# Altium schematic symbol library Schlib.SchLib: 629 symbols (part 8 of 21)
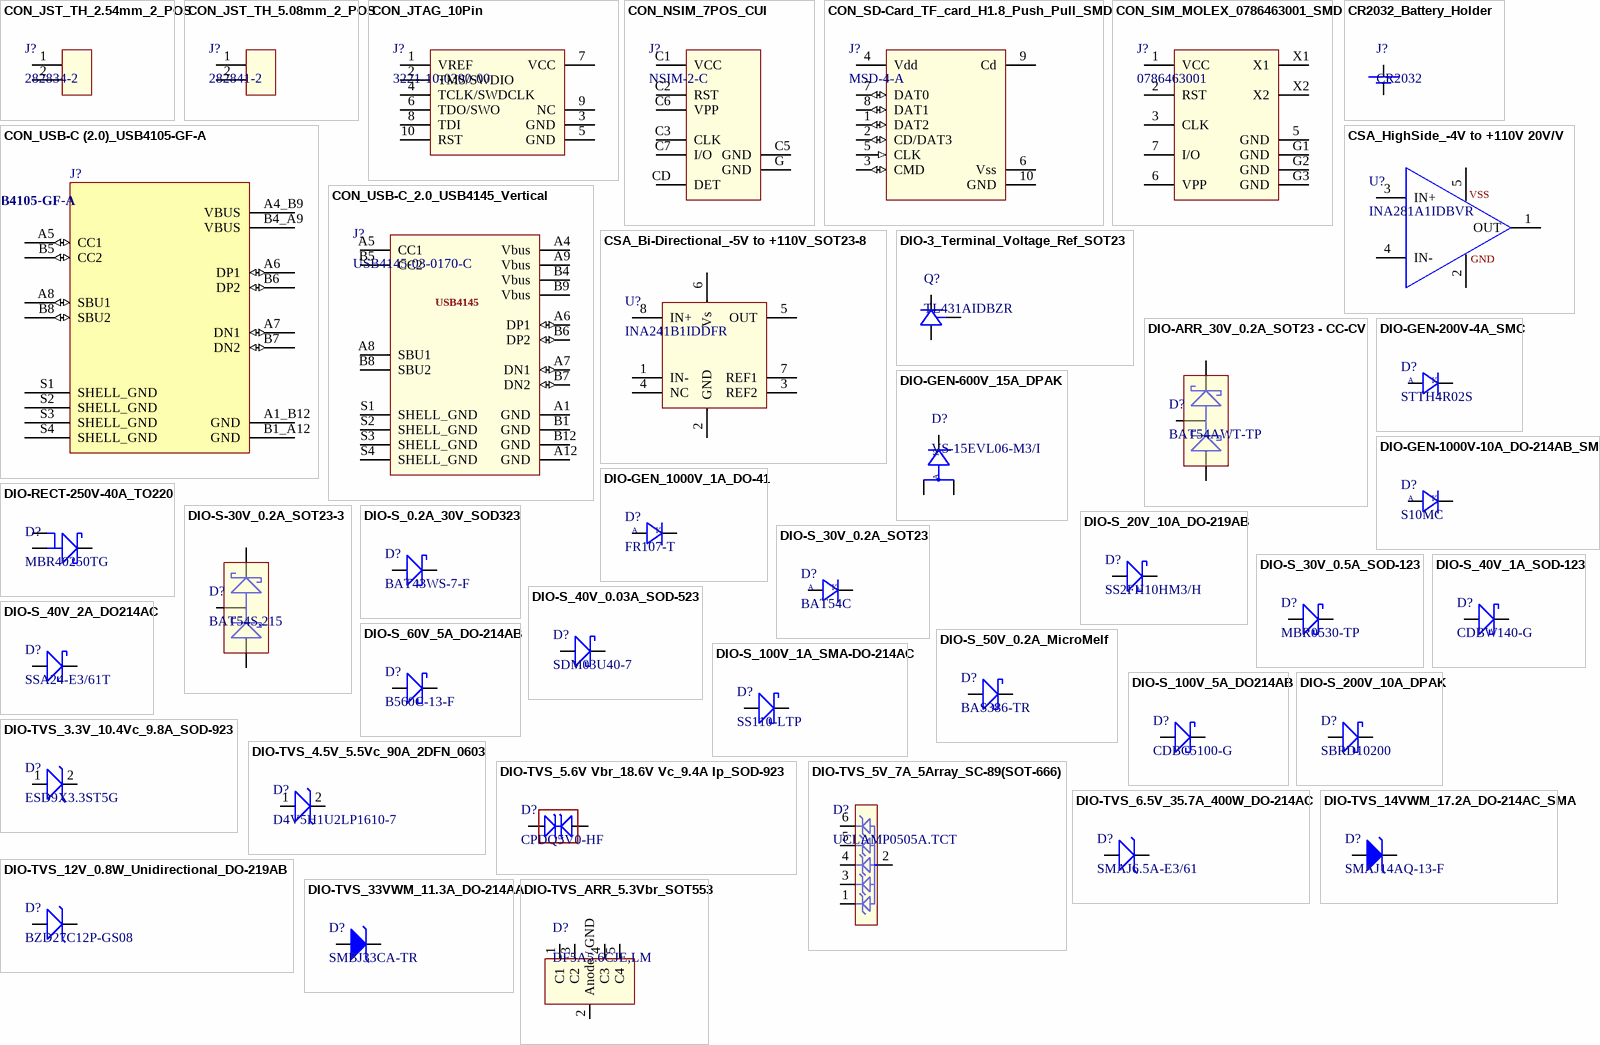
[diagram p25: symbols CON_JST_TH_2.54mm_2_POS to DIO-TVS_ARR_5.3Vbr_SOT553]

## DIO-S_100V_5A_DO214AB
designator D?, comment CDBC5100-G
Rectifier Diode, Schottky, 1 Phase, 1 Element, 5A, 100V V(RRM), Silicon, DO-214AB; Manufacturer: Comchip; Package Body Material: Plastic; Application(s): GENERAL PURPOSE; Non-rep Pk Forward Current-Max: 100A; Number of Elements: 1; Time @ Peak Reflow Temperature-Max (s): 30s; Supplier: Digikey; Supplier Part Number: 641-1124-1-ND; Manufacturer Part Number: CDBC5100-G; RoHS: Yes; Category: Rectifier Diodes; Stock: 8161; Pricing: 1=0.7, 10=0.608, 100=0.421, 500=0.3518, 1000=0.2994 (USD); Pins: 2; Diode Element Material: SILICON; Package Shape: Rectangular; Min Operating Temperature: -40°C; Max Operating Temperature: 125°C; Diode Type: RECTIFIER; JESD-30 Code: R-PDSO-C2; Number of Phases: 1; Max Output current: 5A; Package Style: SMALL OUTLINEMeter; Peak Reflow Temperature (Cel): 260°C; Rep Pk Reverse Voltage-Max: 100V; Surface Mount: Yes; Technology: SCHOTTKY; Terminal Form: C BEND; Terminal Position: DUAL; JEDEC-95 Code: DO-214AB; Reach SVHC Compliant: Yes; RoHS Compliant: Yes; ComponentLink1URL: https://datasheet.ciiva.com:443/pdfs/VipMasterIC/IC/COMC/COMCS00690/COMCS00690-1.pdf?src-supplier=IHS+Markit; ComponentLink1Description: https://datasheet.ciiva.com:443/pdfs/VipMasterIC/IC/COMC/COMCS00690/COMCS00690-1.pdf?src-supplier=IHS+Markit; ComponentLink2URL: https://datasheet.ciiva.com/914/cdbc520-g20thru936981-20cdbc5100-g20revc-914833.pdf?src-supplier=Digikey; ComponentLink2Description: https://datasheet.ciiva.com/914/cdbc520-g20thru936981-20cdbc5100-g20revc-914833.pdf?src-supplier=Digikey; ComponentLink3URL: https://datasheet.ciiva.com/914/cdbc520-gthru936981-cdbc5100-grevc-914835.pdf?src-supplier=Digikey; ComponentLink3Description: https://datasheet.ciiva.com/914/cdbc520-gthru936981-cdbc5100-grevc-914835.pdf?src-supplier=Digikey; ComponentLink4URL: https://datasheet.ciiva.com/914/cdbc520-gthru936981-cdbc5100-grevc-914834.pdf?src-supplier=Digikey; ComponentLink4Description: https://datasheet.ciiva.com/914/cdbc520-gthru936981-cdbc5100-grevc-914834.pdf?src-supplier=Digikey
footprint DO-214AB SMC
pins: 1, 2

## DIO-S_200V_10A_DPAK
designator D?, comment SBRD10200
Diode Schottky 200V 10A Dpak; Manufacturer: Sangdest Microelectronics; Supplier: Digikey; Supplier Part Number: 1655-SBRD10200CT-ND; Manufacturer Part Number: SBRD10200; RoHS: No; Category: Uncategorized; Stock: 46636; Pricing: 1=0.54, 10=0.461, 100=0.3204, 500=0.25014, 1000=0.20331 (USD)
footprint DPAK - TO-252
pins: 1,3 1, 4

## DIO-TVS_3.3V_10.4Vc_9.8A_SOD-923
designator D?, comment ESD9X3.3ST5G
Trans Voltage Suppressor Diode, 102W, 3.3V V(RWM), Unidirectional, 1 Element, Silicon; Manufacturer: ON Semiconductor; Package Body Material: Plastic; Min Breakdown Voltage: 5V; Number of Elements: 1; Clamping Voltage-Max: 10.4V; Max Power Dissipation: 150mW; Time @ Peak Reflow Temperature-Max (s): 40s; Qualification Status: Not Qualified; Supplier: Digi-Key; Supplier Part Number: ESD9X3.3ST5GOSCT-ND; Manufacturer Part Number: ESD9X3.3ST5G; RoHS: Yes; Category: ESD and Circuit Protection ICs; Stock: 3511; Pricing: 1=0.28, 10=0.193, 100=0.0942, 500=0.07858, 1000=0.0546, 2000=0.04732 (USD); Pins: 2; Diode Element Material: SILICON; Package Shape: Rectangular; Terminal Finish: Tin; Min Operating Temperature: -55°C; Max Operating Temperature: 150°C; Polarity: Unidirectional; Diode Type: TRANS VOLTAGE SUPPRESSOR; Package Style: SMALL OUTLINEMeter; Surface Mount: Yes; Technology: AVALANCHE; Terminal Form: Flat; Terminal Position: DUAL; JESD-609 Code: e3; JESD-30 Code: R-PDSO-F2; Moisture Sensitivity Level: 1; Rep Pk Reverse Voltage-Max: 3.3V; Peak Reflow Temperature (Cel): 260°C; Non-rep Peak Rev Power Dis-Max: 102W; Reach SVHC Compliant: Yes; RoHS Compliant: Yes; ComponentLink1URL: https://datasheet.ciiva.com:443/pdfs/VipMasterIC/IC/ONSM/ONSM-S-A0003579749/ONSM-S-A0003579749-1.pdf?src-supplier=IHS+Markit; ComponentLink1Description: https://datasheet.ciiva.com:443/pdfs/VipMasterIC/IC/ONSM/ONSM-S-A0003579749/ONSM-S-A0003579749-1.pdf?src-supplier=IHS+Markit
pins: 1, 2

## DIO-TVS_4.5V_5.5Vc_90A_2DFN_0603
designator D?, comment D4V5H1U2LP1610-7
11.5V Clamp 90A (8/20µs) Ipp Tvs Diode Surface Mount U-DFN1610-2 (Type B); Manufacturer: Diodes; Diode Type: TRANS VOLTAGE SUPPRESSOR; Supplier: Digi-Key; Supplier Part Number: D4V5H1U2LP1610-7DIDKR-ND; Manufacturer Part Number: D4V5H1U2LP1610-7; RoHS: Yes; Category: TVS Diodes; Stock: 77071; Pricing: 1=0.38, 10=0.272, 100=0.1374, 500=0.12174, 1000=0.09474, 2000=0.08479, 5000=0.0829 (USD); Reach SVHC Compliant: Yes; RoHS Compliant: Yes; ComponentLink1URL: https://datasheet.ciiva.com:443/pdfs/VipMasterIC/IC/DIOD/DIOD-S-A0004145107/DIOD-S-A0004145026-1.pdf?src-supplier=IHS+Markit; ComponentLink1Description: https://datasheet.ciiva.com:443/pdfs/VipMasterIC/IC/DIOD/DIOD-S-A0004145107/DIOD-S-A0004145026-1.pdf?src-supplier=IHS+Markit; Supplier 1: Digi-Key; Supplier Part Number 1: D4V5H1U2LP1610-7DICT-ND
pins: 1, 2

## DIO-TVS_5.6V Vbr_18.6V Vc_9.4A Ip_SOD-923
designator D?, comment CPDQ5V0-HF
ESD Suppressor Diode TVS Bi-Dir 5V 18.6Vc 2-Pin SOD-923F T/R; Manufacturer: Comchip; Min Breakdown Voltage: 5.6V; Clamping Voltage: 7.3V; Peak Pulse Power: 174W; Power Line Protection: No; Peak Pulse Current: 9.4A; Diode Type: ZENER; Capacitance: 15pF; Number of Bidirectional Channels: 1; Supplier 1: Digi-Key; Manufacturer Part Number: CPDQ5V0-HF; RoHS: Yes; Category: TVS Diodes; Stock 1: 81421; Pricing 1: 1=0.31, 10=0.252, 100=0.1337, 500=0.08794, 1000=0.0598, 2000=0.05394 (USD); Mount: Surface Mount; Case/Package: 0402; Min Operating Temperature: -40°C; Max Operating Temperature: 125°C; Packaging: Tape and Reel; Package Quantity: 8000; Reverse Standoff Voltage: 5V; Breakdown Voltage: 5.6V; Series: -; Operating Supply Voltage: 5V; RoHS Compliant: Yes; ComponentLink1URL: https://datasheet.ciiva.com/6577/cpdq5v0-hf20reva825126-6577872.pdf?src-supplier=Digi-Key; ComponentLink1Description: https://datasheet.ciiva.com/6577/cpdq5v0-hf20reva825126-6577872.pdf?src-supplier=Digi-Key; ComponentLink2URL: https://datasheet.ciiva.com/12545/cpdq5v0-hf20reva825126-218795-12545530.pdf?src-supplier=Mouser; ComponentLink2Description: https://datasheet.ciiva.com/12545/cpdq5v0-hf20reva825126-218795-12545530.pdf?src-supplier=Mouser; Supplier 2: Digi-Key; Manufacturer 2: Comchip; Manufacturer Part Number 2: CPDQ5V0-HF; Stock 2: 80696; Pricing 2: 1=0.31, 10=0.214, 100=0.1042, 500=0.08692, 1000=0.0604, 2000=0.05235 (USD); Supplier Part Number 2: 641-1478-1-ND
footprint SOD-923F (SODFL, 2-Leads, Body 0.60x1.00mm, IPC Medium Density)
pins: 1, 2 "1"

## DIO-TVS_5V_7A_5Array_SC-89(SOT-666)
designator D?, comment UCLAMP0505A.TCT
Trans Voltage Suppressor Diode, 100W, 5V V(RWM), Unidirectional, 5 Element, Silicon; Manufacturer: Semtech; Package Body Material: Plastic; Min Breakdown Voltage: 6V; Clamping Voltage-Max: 12V; Number of Elements: 5; Qualification Status: Not Qualified; Supplier: Digi-Key; Supplier Part Number: UCLAMP0505ACT-ND; Manufacturer Part Number: UCLAMP0505A.TCT; RoHS: Yes; Category: TVS Diodes; Stock: 14139; Pricing: 1=0.76, 10=0.656, 100=0.4545, 500=0.37976, 1000=0.3232 (USD); Pins: 6; Diode Element Material: SILICON; Package Shape: Rectangular; Terminal Finish: Tin; Min Operating Temperature: -55°C; Max Operating Temperature: 125°C; JESD-609 Code: e3; Polarity: Unidirectional; Diode Type: TRANS VOLTAGE SUPPRESSOR; JESD-30 Code: R-PDSO-F6; Moisture Sensitivity Level: 1; Non-rep Peak Rev Power Dis-Max: 100W; Package Style: SMALL OUTLINEMeter; Peak Reflow Temperature (Cel): 260°C; Rep Pk Reverse Voltage-Max: 5V; Surface Mount: Yes; Technology: AVALANCHE; Terminal Form: Flat; Terminal Position: DUAL; Reach SVHC Compliant: Yes; RoHS Compliant: Yes; ComponentLink1URL: https://datasheet.ciiva.com:443/pdfs/VipMasterIC/IC/SEMT/SEMT-S-A0000084877/SEMT-S-A0000084877-1.pdf?src-supplier=IHS+Markit; ComponentLink1Description: https://datasheet.ciiva.com:443/pdfs/VipMasterIC/IC/SEMT/SEMT-S-A0000084877/SEMT-S-A0000084877-1.pdf?src-supplier=IHS+Markit; ComponentLink2URL: https://datasheet.ciiva.com/26837/getdatasheetpartid-215864-26837202.pdf?src-supplier=Verical; ComponentLink2Description: https://datasheet.ciiva.com/26837/getdatasheetpartid-215864-26837202.pdf?src-supplier=Verical; ComponentLink3URL: https://datasheet.ciiva.com/11195/uclamp0505a-11195109.pdf?src-supplier=Avnet; ComponentLink3Description: https://datasheet.ciiva.com/11195/uclamp0505a-11195109.pdf?src-supplier=Avnet
pins: 1, 2, 3, 4, 5, 6

## DIO-TVS_6.5V_35.7A_400W_DO-214AC
designator D?, comment SMAJ6.5A-E3/61
Trans Voltage Suppressor Diode, 400W, 6.5V V(RWM), Unidirectional, 1 Element, Silicon, DO-214AC; Manufacturer: Vishay Semiconductors; Package Body Material: Plastic; Number of Elements: 1; Time @ Peak Reflow Temperature-Max (s): 30s; Additional Feature: EXCELLENT CLAMPING CAPABILITY; Max Breakdown Voltage: 7.98V; Min Breakdown Voltage: 7.22V; Breakdown Voltage-Nom: 7.6V; Clamping Voltage-Max: 11.2V; Qualification Status: Not Qualified; Supplier: Mouser; Supplier Part Number: 625-SMAJ6.5A-E3; Manufacturer Part Number: SMAJ6.5A-E3/61; RoHS: Yes; Category: TVS Diodes; Stock: 351; Pricing: 1=0.23, 10=0.159, 50=0.159, 100=0.092, 1000=0.072, 10000=0.065 (USD); Pins: 2; Terminal Finish: Tin; Package Shape: Rectangular; Diode Element Material: SILICON; Min Operating Temperature: -55°C; Max Operating Temperature: 150°C; JESD-609 Code: e3; Moisture Sensitivity Level: 1; Package Style: SMALL OUTLINEMeter; Surface Mount: Yes; Terminal Form: C BEND; Terminal Position: DUAL; JESD-30 Code: R-PDSO-C2; Peak Reflow Temperature (Cel): 260°C; Technology: AVALANCHE; Diode Type: TRANS VOLTAGE SUPPRESSOR; Rep Pk Reverse Voltage-Max: 6.5V; Polarity: Unidirectional; Non-rep Peak Rev Power Dis-Max: 400W; RoHS Compliant: Yes; Reach SVHC Compliant: No; JEDEC-95 Code: DO-214AC; ComponentLink1URL: https://datasheet.ciiva.com:443/pdfs/VipMasterIC/IC/VISH/VISH-S-A0007326236/VISH-S-A0007326236-1.pdf?src-supplier=IHS+Markit; ComponentLink1Description: https://datasheet.ciiva.com:443/pdfs/VipMasterIC/IC/VISH/VISH-S-A0007326236/VISH-S-A0007326236-1.pdf?src-supplier=IHS+Markit; ComponentLink2URL: https://datasheet.ciiva.com/15143/getdatasheetpartid-67023-15143218.pdf?src-supplier=Verical; ComponentLink2Description: https://datasheet.ciiva.com/15143/getdatasheetpartid-67023-15143218.pdf?src-supplier=Verical; ComponentLink3URL: https://datasheet.ciiva.com/4510/smaj50a-241759-4510972.pdf?src-supplier=Mouser; ComponentLink3Description: https://datasheet.ciiva.com/4510/smaj50a-241759-4510972.pdf?src-supplier=Mouser; ComponentLink4URL: https://datasheet.ciiva.com/3022/88390-3022307.pdf?src-supplier=Avnet; ComponentLink4Description: https://datasheet.ciiva.com/3022/88390-3022307.pdf?src-supplier=Avnet; ComponentLink5URL: https://datasheet.ciiva.com/16225/smaj50a-16225883.pdf?src-supplier=Future+Electronics; ComponentLink5Description: https://datasheet.ciiva.com/16225/smaj50a-16225883.pdf?src-supplier=Future+Electronics
footprint DIO214AC
pins: 1, 2

## DIO-TVS_12V_0.8W_Unidirectional_DO-219AB
designator D?, comment BZD27C12P-GS08
Zener Diode, 12V V(Z), 5.39%, 0.8W, Silicon, Unidirectional, DO-219AB; Manufacturer: Vishay; Package Body Material: Plastic; Max Power Dissipation: 800mW; Number of Elements: 1; Time @ Peak Reflow Temperature-Max (s): 40s; Test Current: 50mA; Qualification Status: Not Qualified; Supplier: Bison Technologies; Supplier Part Number: BZD27C12P-GS08-296836; Manufacturer Part Number: BZD27C12P-GS08; RoHS: Yes; Category: Zener Diodes; Stock: 53; Pricing: 100=3.92, 1000=3.92, 10000=3.92 (USD); Pins: 2; Diode Element Material: SILICON; Package Shape: Rectangular; Terminal Finish: Tin; Max Operating Temperature: 150°C; JESD-609 Code: e3; Polarity: Unidirectional; Diode Type: ZENER; JESD-30 Code: R-PDSO-F2; Moisture Sensitivity Level: 1; Package Style: SMALL OUTLINEMeter; Peak Reflow Temperature (Cel): 260°C; Reference Voltage-Nom: 12V; Surface Mount: Yes; Technology: ZENER; Terminal Form: Flat; Terminal Position: DUAL; Voltage Tol-Max: 5.39%; RoHS Compliant: Yes; JEDEC-95 Code: DO-219AB; Reach SVHC Compliant: No; ComponentLink1URL: https://datasheet.ciiva.com:443/pdfs/VipMasterIC/IC/VISH/VISHS83149/VISHS83149-1.pdf?src-supplier=IHS+Markit; ComponentLink1Description: https://datasheet.ciiva.com:443/pdfs/VipMasterIC/IC/VISH/VISHS83149/VISHS83149-1.pdf?src-supplier=IHS+Markit; ComponentLink2URL: http://www.mouser.com/ds/2/427/85810-201154.pdf?src-supplier=Mouser; ComponentLink2Description: http://www.mouser.com/ds/2/427/85810-201154.pdf?src-supplier=Mouser; ComponentLink3URL: http://components.arrow.com/part/dataview/43139632S8430188N5680?src-supplier=Arrow+Electronics; ComponentLink3Description: http://components.arrow.com/part/dataview/43139632S8430188N5680?src-supplier=Arrow+Electronics; ComponentLink4URL: http://docs-usa.electrocomponents.com/techlib:/itc_doclist_US.htm?stockno=6997723&src-supplier=Allied+Electronics; ComponentLink4Description: http://docs-usa.electrocomponents.com/techlib:/itc_doclist_US.htm?stockno=6997723&src-supplier=Allied+Electronics; ComponentLink5URL: http://www.vishay.com/docs/85153/bzd27c3v6p.pdf?src-supplier=Future+Electronics; ComponentLink5Description: http://www.vishay.com/docs/85153/bzd27c3v6p.pdf?src-supplier=Future+Electronics; ComponentLink6URL: http://www.vishay.com/docs/85810/bzd27c3v.pdf?src-supplier=Avnet; ComponentLink6Description: http://www.vishay.com/docs/85810/bzd27c3v.pdf?src-supplier=Avnet
footprint DO-219AB
pins: 1, 2

## DIO-TVS_14VWM_17.2A_DO-214AC_SMA
designator D?, comment SMAJ14AQ-13-F
Trans Voltage Suppressor Diode, 400W, 14V V(RWM), Unidirectional, 1 Element, Silicon; Manufacturer: Diodes; Supplier: Arrow Electronics; Supplier Part Number: SMAJ14AQ-13-F; Manufacturer Part Number: SMAJ14AQ-13-F; RoHS: Yes; Category: TVS Diodes; Stock: 5000; Pricing: 756=0.1322, 1000=0.0851, 2000=0.0816, 5000=0.0663 (USD); Diode Type: TRANS VOLTAGE SUPPRESSOR; RoHS Compliant: Yes; Reach SVHC Compliant: No; ComponentLink1URL: https://datasheet.ciiva.com:443/pdfs/VipMasterIC/IC/DIOD/DIOD-S-A0009824709/DIOD-S-A0009865529-1.pdf?src-supplier=IHS+Markit; ComponentLink1Description: https://datasheet.ciiva.com:443/pdfs/VipMasterIC/IC/DIOD/DIOD-S-A0009824709/DIOD-S-A0009865529-1.pdf?src-supplier=IHS+Markit
footprint DIO214AC
pins: 1, 2

## DIO-TVS_33VWM_11.3A_DO-214AA
designator D?, comment SMBJ33CA-TR
Trans Voltage Suppressor Diode, 4000W, 33V V(RWM), Bidirectional, 1 Element, Silicon, DO-214AA; Manufacturer: STMicroelectronics; Package Body Material: Plastic; Non-rep Peak Rev Power Dis-Max: 4kW; Number of Elements: 1; Min Breakdown Voltage: 36.7V; Time @ Peak Reflow Temperature-Max (s): 30s; Clamping Voltage-Max: 69.7V; Max Power Dissipation: 5W; Qualification Status: Not Qualified; Supplier: Arrow Electronics; Supplier Part Number: SMBJ33CA-TR; Manufacturer Part Number: SMBJ33CA-TR; RoHS: Yes; Category: TVS Diodes; Stock: 322500; Pricing: 2500=0.0601, 50000=0.0573 (USD); Pins: 2; Diode Element Material: SILICON; Package Shape: Rectangular; Terminal Finish: Tin; Min Operating Temperature: -55°C; Max Operating Temperature: 150°C; Diode Type: TRANS VOLTAGE SUPPRESSOR; JESD-609 Code: e3; Polarity: Bidirectional; JESD-30 Code: R-PDSO-C2; Moisture Sensitivity Level: 1; Package Style: SMALL OUTLINEMeter; Rep Pk Reverse Voltage-Max: 33V; Surface Mount: Yes; Technology: AVALANCHE; Terminal Form: C BEND; Terminal Position: DUAL; Peak Reflow Temperature (Cel): 260°C; Reach SVHC Compliant: No; RoHS Compliant: Yes; JEDEC-95 Code: DO-214AA; ComponentLink1URL: https://datasheet.ciiva.com:443/pdfs/VipMasterIC/IC/SGST/SGSTS31201/SGSTS31201-1.pdf?src-supplier=IHS+Markit; ComponentLink1Description: https://datasheet.ciiva.com:443/pdfs/VipMasterIC/IC/SGST/SGSTS31201/SGSTS31201-1.pdf?src-supplier=IHS+Markit
footprint DO-214AA
pins: 1, 2

## DIO-TVS_ARR_5.3Vbr_SOT553
designator D?, comment DF5A5.6CJE,LM
TVS DIODE 3.5V ESV; Manufacturer: Toshiba; Supplier: Digikey; Supplier Part Number: DF5A5.6CJE,LMCT-ND; Manufacturer Part Number: DF5A5.6CJE,LM; RoHS: Yes; Category: TVS Diodes; Stock: 94799; Pricing: 1=0.33, 10=0.228, 100=0.1111, 500=0.09266, 1000=0.06439, 2000=0.0558 (USD); ComponentLink1URL: https://toshiba.semicon-storage.com/info/docget.jsp?did=351&prodName=DF5A5.6CJE&src-supplier=Digikey; ComponentLink1Description: https://toshiba.semicon-storage.com/info/docget.jsp?did=351&prodName=DF5A5.6CJE&src-supplier=Digikey; ComponentLink2URL: http://toshiba.semicon-storage.com/info/docget.jsp?did=351&prodName=DF5A5.6CJE&src-supplier=Avnet; ComponentLink2Description: http://toshiba.semicon-storage.com/info/docget.jsp?did=351&prodName=DF5A5.6CJE&src-supplier=Avnet; ComponentLink3URL: http://toshiba.semicon-storage.com/info/lookup.jsp?pid=DF5A5.6CJE&amp;lang=en&src-supplier=Mouser; ComponentLink3Description: http://toshiba.semicon-storage.com/info/lookup.jsp?pid=DF5A5.6CJE&amp;lang=en&src-supplier=Mouser
footprint SOT553
pins: 1 C1, 2 Anode / GND, 3 C2, 4 C3, 5 C4

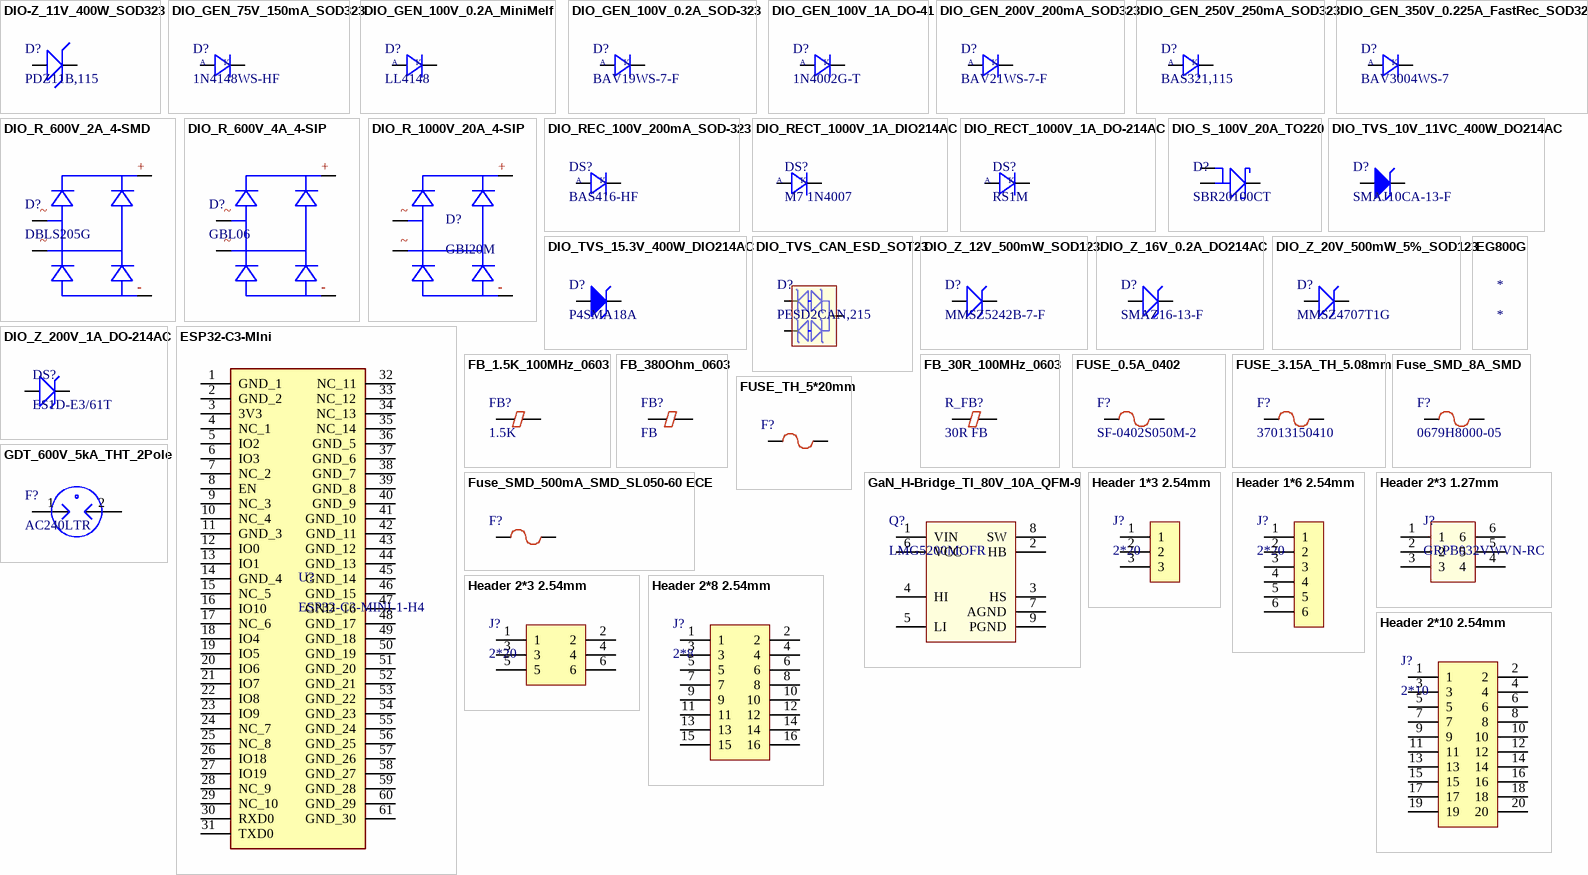
[diagram p5: symbols DIO-Z_11V_400W_SOD323 to Header 2*10 2.54mm]

## DIO-Z_11V_400W_SOD323
designator D?, comment PDZ11B,115
Zener Diode, 11V V(Z), 2%, 0.4W, Silicon, Unidirectional; Manufacturer: Nexperia; Package Body Material: Plastic; Number of Elements: 1; Max Power Dissipation: 400mW; Max Reverse Current: 100nA; Time @ Peak Reflow Temperature-Max (s): 40s; Voltage Temp Coeff-Max: 7.4mV/Cel; Test Current: 5mA; Qualification Status: Not Qualified; Supplier: Digikey; Supplier Part Number: 1727-2151-1-ND; Manufacturer Part Number: PDZ11B,115; RoHS: Yes; Category: Zener Diodes; Stock: 28827; Pricing: 1=0.11, 10=0.078, 100=0.04, 500=0.0375, 1000=0.035 (USD); Pins: 2; Diode Element Material: SILICON; Package Shape: Rectangular; Terminal Finish: Tin; Max Operating Temperature: 150°C; JESD-609 Code: e3; Polarity: Unidirectional; Diode Type: ZENER; JESD-30 Code: R-PDSO-G2; Moisture Sensitivity Level: 1; Package Style: SMALL OUTLINEMeter; Peak Reflow Temperature (Cel): 260°C; Reference Voltage-Nom: 11V; Surface Mount: Yes; Technology: ZENER; Terminal Form: Gull Wing; Terminal Position: DUAL; Voltage Tol-Max: 2%; Reach SVHC Compliant: Yes; RoHS Compliant: Yes; ComponentLink1URL: https://datasheet.ciiva.com:443/pdfs/VipMasterIC/IC/PHGL/PHGLS19616/PHGLS19616-1.pdf?src-supplier=IHS+Markit; ComponentLink1Description: https://datasheet.ciiva.com:443/pdfs/VipMasterIC/IC/PHGL/PHGLS19616/PHGLS19616-1.pdf?src-supplier=IHS+Markit; ComponentLink2URL: https://datasheet.octopart.com/PDZ11B%2C115-Nexperia-datasheet-165580943.pdf?src-supplier=TME; ComponentLink2Description: https://datasheet.octopart.com/PDZ11B%2C115-Nexperia-datasheet-165580943.pdf?src-supplier=TME
footprint SOD-323
pins: 1, 2

## DIO_GEN_75V_150mA_SOD323
designator D?, comment 1N4148WS-HF
Rectifier Diode, 1 Phase, 1 Element, 0.15A, 100V V(RRM), Silicon; Manufacturer: Comchip; Supplier: Digikey; Supplier Part Number: 641-1N4148WS-HFCT-ND; Manufacturer Part Number: 1N4148WS-HF; RoHS: No; Stock: 386022; Pricing: 1=0.17, 10=0.118, 100=0.0639, 500=0.05018, 1000=0.03484 (USD); RoHS Compliant: Yes
footprint SOD-323
pins: 1, 2
text: A; K

## DIO_GEN_100V_0.2A_MiniMelf
designator D?, comment LL4148
Rectifier Diode, 1 Phase, 1 Element, 0.2A, 100V V(RRM), Silicon, DO-213AC; Manufacturer: ON Semiconductor / Fairchild; Package Body Material: Glass; Case Connection: Isolated; Number of Elements: 1; Max Output current: 200mA; Max Power Dissipation: 500mW; Reverse Recovery Time-Max: 0.004us; Forward Voltage: 1V; Non-rep Pk Forward Current-Max: 2A; Qualification Status: Not Qualified; Supplier: Farnell; Supplier Part Number: 2822552; Manufacturer Part Number: LL4148; RoHS: Yes; Category: Rectifier Diodes; Stock: 54440; Pricing: 5=0.0993, 50=0.0496, 100=0.0258, 500=0.0244, 1000=0.0229 (EUR); Pins: 2; Diode Element Material: SILICON; Package Shape: Round; Terminal Finish: Tin; Max Operating Temperature: 175°C; Diode Type: RECTIFIER; JESD-30 Code: O-LELF-R2; Package Style: LONG FORMMeter; Rep Pk Reverse Voltage-Max: 100V; Surface Mount: Yes; Terminal Form: WRAP AROUND; Terminal Position: END; Moisture Sensitivity Level: 1; JESD-609 Code: e3; RoHS Compliant: Yes; Reach SVHC Compliant: Yes; JEDEC-95 Code: DO-213AC; ComponentLink1URL: https://datasheet.ciiva.com:443/pdfs/VipMasterIC/IC/ONSM/ONSM-S-A0003589362/ONSM-S-A0003589362-1.pdf?src-supplier=IHS+Markit; ComponentLink1Description: https://datasheet.ciiva.com:443/pdfs/VipMasterIC/IC/ONSM/ONSM-S-A0003589362/ONSM-S-A0003589362-1.pdf?src-supplier=IHS+Markit
pins: 1, 2
text: A; K

## DIO_GEN_100V_0.2A_SOD-323
designator D?, comment BAV19WS-7-F
Rectifier Diode, 1 Phase, 1 Element, 0.2A, 120V V(RRM), Silicon; Manufacturer: Diodes; Package Body Material: Plastic; Additional Feature: HIGH RELIABILITY; Forward Voltage: 1V; Non-rep Pk Forward Current-Max: 2.5A; Number of Elements: 1; Max Output current: 200mA; Max Power Dissipation: 200mW; Reverse Recovery Time-Max: 0.05us; Time @ Peak Reflow Temperature-Max (s): 40s; Qualification Status: Not Qualified; Supplier: Farnell; Supplier Part Number: 3127222; Manufacturer Part Number: BAV19WS-7-F; RoHS: Yes; Category: Rectifier Diodes; Stock: 3104; Pricing: 5=0.146, 10=0.0945, 100=0.037, 500=0.0351, 1000=0.0332, 5000=0.0253 (EUR); Pins: 2; Diode Element Material: SILICON; Package Shape: Rectangular; Terminal Finish: Tin; Min Operating Temperature: -65°C; Max Operating Temperature: 150°C; JESD-609 Code: e3; Diode Type: RECTIFIER; JESD-30 Code: R-PDSO-G2; Moisture Sensitivity Level: 1; Package Style: SMALL OUTLINEMeter; Peak Reflow Temperature (Cel): 260°C; Rep Pk Reverse Voltage-Max: 120V; Surface Mount: Yes; Terminal Form: Gull Wing; Terminal Position: DUAL; Reach SVHC Compliant: Yes; RoHS Compliant: Yes; ComponentLink1URL: https://datasheet.ciiva.com:443/pdfs/VipMasterIC/IC/DIOD/DIOD-S-A0001812425/DIOD-S-A0001812425-1.pdf?src-supplier=IHS+Markit; ComponentLink1Description: https://datasheet.ciiva.com:443/pdfs/VipMasterIC/IC/DIOD/DIOD-S-A0001812425/DIOD-S-A0001812425-1.pdf?src-supplier=IHS+Markit; ComponentLink2URL: https://datasheet.ciiva.com/30513/1589857-30513976.pdf?src-supplier=Jameco; ComponentLink2Description: https://datasheet.ciiva.com/30513/1589857-30513976.pdf?src-supplier=Jameco; ComponentLink3URL: https://datasheet.ciiva.com/16418/ds30119-16418461.pdf?src-supplier=Future+Electronics; ComponentLink3Description: https://datasheet.ciiva.com/16418/ds30119-16418461.pdf?src-supplier=Future+Electronics; ComponentLink4URL: https://datasheet.ciiva.com/15144/getdatasheetpartid-92230-15144710.pdf?src-supplier=Verical; ComponentLink4Description: https://datasheet.ciiva.com/15144/getdatasheetpartid-92230-15144710.pdf?src-supplier=Verical
footprint SOD-323
pins: 1, 2
text: A; K

## DIO_GEN_100V_1A_DO-41
designator D?, comment 1N4002G-T
Rectifier Diode, 1 Phase, 1 Element, 1A, 100V V(RRM), Silicon, DO-41; Manufacturer: Diodes; Package Body Material: Plastic; Number of Elements: 1; Surface Mount: No; Case Connection: Isolated; Forward Voltage: 1V; Non-rep Pk Forward Current-Max: 30A; Time @ Peak Reflow Temperature-Max (s): 40s; Reverse Recovery Time-Max: 2us; Qualification Status: Not Qualified; Supplier: Avnet; Supplier Part Number: 1N4002G-T; Manufacturer Part Number: 1N4002G-T; RoHS: Yes; Category: Rectifier Diodes; Stock: 100000; Pricing: 5000=0.0246, 10000=0.02447, 20000=0.02435, 30000=0.02422, 40000=0.0241 (USD); Pins: 2; Diode Element Material: SILICON; Package Shape: Round; Terminal Finish: Tin; Min Operating Temperature: -65°C; Max Operating Temperature: 175°C; JESD-609 Code: e3; Diode Type: RECTIFIER; JESD-30 Code: O-PALF-W2; Max Output current: 1A; Package Style: LONG FORMMeter; Rep Pk Reverse Voltage-Max: 100V; Terminal Form: Wire; Terminal Position: AXIAL; Peak Reflow Temperature (Cel): 260°C; RoHS Compliant: Yes; Reach SVHC Compliant: No; JEDEC-95 Code: DO-41; ComponentLink1URL: https://datasheet.ciiva.com:443/pdfs/VipMasterIC/IC/DIOD/DIODS14380/DIODS14380-1.pdf?src-supplier=IHS+Markit; ComponentLink1Description: https://datasheet.ciiva.com:443/pdfs/VipMasterIC/IC/DIOD/DIODS14380/DIODS14380-1.pdf?src-supplier=IHS+Markit; ComponentLink2URL: https://datasheet.ciiva.com/912/ds29002-912080.pdf?src-supplier=Avnet; ComponentLink2Description: https://datasheet.ciiva.com/912/ds29002-912080.pdf?src-supplier=Avnet; ComponentLink3URL: https://datasheet.ciiva.com/912/ds29002-912025.pdf?src-supplier=Digikey; ComponentLink3Description: https://datasheet.ciiva.com/912/ds29002-912025.pdf?src-supplier=Digikey; ComponentLink4URL: https://datasheet.ciiva.com/912/ds29002-912026.pdf?src-supplier=Digikey; ComponentLink4Description: https://datasheet.ciiva.com/912/ds29002-912026.pdf?src-supplier=Digikey
footprint DO-41
pins: 1 2, 2 1
text: A; K

## DIO_GEN_200V_200mA_SOD323
designator D?, comment BAV21WS-7-F
Rectifier Diode, 1 Phase, 1 Element, 0.2A, 250V V(RRM), Silicon; Manufacturer: Diodes; Package Body Material: Plastic; Time @ Peak Reflow Temperature-Max (s): 40s; Additional Feature: HIGH RELIABILITY; Forward Voltage: 1V; Non-rep Pk Forward Current-Max: 2.5A; Number of Elements: 1; Max Output current: 200mA; Max Power Dissipation: 200mW; Reverse Recovery Time-Max: 0.05us; Qualification Status: Not Qualified; Supplier: Farnell; Supplier Part Number: 1843696; Manufacturer Part Number: BAV21WS-7-F; RoHS: Yes; Category: Rectifier Diodes; Stock: 4182; Pricing: 5=0.12, 10=0.0843, 100=0.0566, 500=0.0437, 1000=0.0338, 5000=0.0229 (EUR); Pins: 2; Package Shape: Rectangular; Terminal Finish: Tin; Diode Element Material: SILICON; Min Operating Temperature: -65°C; Max Operating Temperature: 150°C; JESD-609 Code: e3; JESD-30 Code: R-PDSO-G2; Moisture Sensitivity Level: 1; Peak Reflow Temperature (Cel): 260°C; Surface Mount: Yes; Terminal Form: Gull Wing; Terminal Position: DUAL; Diode Type: RECTIFIER; Package Style: SMALL OUTLINEMeter; Rep Pk Reverse Voltage-Max: 250V; Reach SVHC Compliant: Yes; RoHS Compliant: Yes; ComponentLink1URL: https://datasheet.ciiva.com:443/pdfs/VipMasterIC/IC/DIOD/DIOD-S-A0001812425/DIOD-S-A0001812425-1.pdf?src-supplier=IHS+Markit; ComponentLink1Description: https://datasheet.ciiva.com:443/pdfs/VipMasterIC/IC/DIOD/DIOD-S-A0001812425/DIOD-S-A0001812425-1.pdf?src-supplier=IHS+Markit; ComponentLink2URL: https://datasheet.ciiva.com/16203/ds30119-16203769.pdf?src-supplier=Future+Electronics; ComponentLink2Description: https://datasheet.ciiva.com/16203/ds30119-16203769.pdf?src-supplier=Future+Electronics; ComponentLink3URL: https://datasheet.ciiva.com/22695/1911822-22695271.pdf?src-supplier=Element14; ComponentLink3Description: https://datasheet.ciiva.com/22695/1911822-22695271.pdf?src-supplier=Element14; ComponentLink4URL: https://datasheet.ciiva.com/1180/ds30119-1180551.pdf?src-supplier=Element14; ComponentLink4Description: https://datasheet.ciiva.com/1180/ds30119-1180551.pdf?src-supplier=Element14; ComponentLink5URL: https://datasheet.ciiva.com/8300/ds30119-8300813.pdf?src-supplier=Avnet; ComponentLink5Description: https://datasheet.ciiva.com/8300/ds30119-8300813.pdf?src-supplier=Avnet; ComponentLink6URL: https://datasheet.ciiva.com/8301/ds30119-8301431.pdf?src-supplier=Avnet; ComponentLink6Description: https://datasheet.ciiva.com/8301/ds30119-8301431.pdf?src-supplier=Avnet
footprint SOD-323
pins: 1, 2
text: A; K

## DIO_GEN_250V_250mA_SOD323
designator D?, comment BAS321,115
Rectifier Diode, 1 Phase, 1 Element, 0.25A, 250V V(RRM), Silicon; Manufacturer: Nexperia; Package Body Material: Plastic; Number of Elements: 1; Max Output current: 250mA; Max Power Dissipation: 300mW; Reverse Recovery Time-Max: 0.05us; Reference Standard: IEC-60134; Supplier: Digikey; Supplier Part Number: 1727-4802-6-ND; Manufacturer Part Number: BAS321,115; RoHS: Yes; Category: Rectifier Diodes; Stock: 5196; Pricing: 1=0.14, 10=0.087, 100=0.0533, 500=0.0386, 1000=0.0338 (USD); Pins: 2; Diode Element Material: SILICON; Package Shape: Rectangular; Terminal Finish: Tin; Max Operating Temperature: 150°C; JESD-609 Code: e3; Diode Type: RECTIFIER; JESD-30 Code: R-PDSO-G2; Moisture Sensitivity Level: 1; Package Style: SMALL OUTLINEMeter; Rep Pk Reverse Voltage-Max: 250V; Surface Mount: Yes; Terminal Form: Gull Wing; Terminal Position: DUAL; Reach SVHC Compliant: Yes; RoHS Compliant: Yes; ComponentLink1URL: https://datasheet.ciiva.com:443/pdfs/VipMasterIC/IC/NEXP/NEXP-S-A0002881467/NEXP-S-A0002882768-1.pdf?src-supplier=IHS+Markit; ComponentLink1Description: https://datasheet.ciiva.com:443/pdfs/VipMasterIC/IC/NEXP/NEXP-S-A0002881467/NEXP-S-A0002882768-1.pdf?src-supplier=IHS+Markit; ComponentLink2URL: https://assets.nexperia.com/documents/data-sheet/BAS321.pdf?src-supplier=Digikey; ComponentLink2Description: https://assets.nexperia.com/documents/data-sheet/BAS321.pdf?src-supplier=Digikey; ComponentLink3URL: https://datasheet.octopart.com/BAS321%2C115-Nexperia-datasheet-8332705.pdf?src-supplier=Element14; ComponentLink3Description: https://datasheet.octopart.com/BAS321%2C115-Nexperia-datasheet-8332705.pdf?src-supplier=Element14; ComponentLink4URL: http://www.farnell.com/datasheets/692740.pdf?src-supplier=Newark; ComponentLink4Description: http://www.farnell.com/datasheets/692740.pdf?src-supplier=Newark
footprint SOD-323
pins: 1, 2
text: A; K

## DIO_GEN_350V_0.225A_FastRec_SOD323
designator D?, comment BAV3004WS-7
Rectifier Diode, 1 Phase, 1 Element, 0.225A, 350V V(RRM), Silicon; Manufacturer: Diodes; Package Body Material: Plastic; Forward Voltage: 870mV; Non-rep Pk Forward Current-Max: 1A; Number of Elements: 1; Max Output current: 225mA; Max Power Dissipation: 200mW; Reverse Recovery Time-Max: 0.05us; Time @ Peak Reflow Temperature-Max (s): 40s; Qualification Status: Not Qualified; Supplier: Farnell; Supplier Part Number: 3127226; Manufacturer Part Number: BAV3004WS-7; RoHS: Yes; Category: Rectifier Diodes; Pricing: 5=0.296, 50=0.21, 100=0.104 (EUR); Pins: 2; Diode Element Material: SILICON; Package Shape: Rectangular; Terminal Finish: Tin; Min Operating Temperature: -65°C; Max Operating Temperature: 150°C; JESD-609 Code: e3; Diode Type: RECTIFIER; JESD-30 Code: R-PDSO-G2; Moisture Sensitivity Level: 1; Package Style: SMALL OUTLINEMeter; Peak Reflow Temperature (Cel): 260°C; Rep Pk Reverse Voltage-Max: 350V; Surface Mount: Yes; Terminal Form: Gull Wing; Terminal Position: DUAL; Reach SVHC Compliant: Yes; RoHS Compliant: Yes; ComponentLink1URL: https://datasheet.ciiva.com:443/pdfs/VipMasterIC/IC/DIOD/DIODS10745/DIODS10745-1.pdf?src-supplier=IHS+Markit; ComponentLink1Description: https://datasheet.ciiva.com:443/pdfs/VipMasterIC/IC/DIOD/DIODS10745/DIODS10745-1.pdf?src-supplier=IHS+Markit; ComponentLink2URL: https://datasheet.ciiva.com/4435/ds30646-79941-4435170.pdf?src-supplier=Mouser; ComponentLink2Description: https://datasheet.ciiva.com/4435/ds30646-79941-4435170.pdf?src-supplier=Mouser; ComponentLink3URL: https://datasheet.ciiva.com/8301/ds30646-8301440.pdf?src-supplier=Avnet; ComponentLink3Description: https://datasheet.ciiva.com/8301/ds30646-8301440.pdf?src-supplier=Avnet; ComponentLink4URL: https://datasheet.ciiva.com/913/ds30646-913148.pdf?src-supplier=Digikey; ComponentLink4Description: https://datasheet.ciiva.com/913/ds30646-913148.pdf?src-supplier=Digikey; ComponentLink5URL: https://datasheet.ciiva.com/913/ds30646-913149.pdf?src-supplier=Digikey; ComponentLink5Description: https://datasheet.ciiva.com/913/ds30646-913149.pdf?src-supplier=Digikey; ComponentLink6URL: https://datasheet.ciiva.com/913/ds30646-913150.pdf?src-supplier=Digikey; ComponentLink6Description: https://datasheet.ciiva.com/913/ds30646-913150.pdf?src-supplier=Digikey
footprint SOD-323
pins: 1, 2
text: A; K

## DIO_R_600V_2A_4-SMD
designator D?, comment DBLS205G
Bridge Rectifier Diode, 1 Phase, 2A, 600V V(RRM), Silicon; Manufacturer: Taiwan Semiconductor; Package Body Material: Plastic; Additional Feature: UL RECOGNIZED; Non-rep Pk Forward Current-Max: 50A; Number of Elements: 4; Number of Phases: 1; Time @ Peak Reflow Temperature-Max (s): 30s; Qualification Status: Not Qualified; Supplier: Farnell; Supplier Part Number: 3519282; Manufacturer Part Number: DBLS205G; RoHS: Yes; Category: Uncategorized; Stock: 3503; Pricing: 1=0.662, 10=0.534, 50=0.449, 200=0.364, 500=0.3 (EUR); Pins: 4; Diode Element Material: SILICON; Package Shape: Rectangular; Terminal Finish: Tin; Min Operating Temperature: -55°C; Max Operating Temperature: 150°C; Diode Type: RECTIFIER; Min Breakdown Voltage: 600V; JESD-30 Code: R-PDSO-G4; Max Output current: 2A; Package Style: SMALL OUTLINEMeter; Rep Pk Reverse Voltage-Max: 600V; Surface Mount: Yes; Terminal Form: Gull Wing; Terminal Position: DUAL; JESD-609 Code: e3; Peak Reflow Temperature (Cel): 250°C; Reach SVHC Compliant: No; RoHS Compliant: Yes; ComponentLink1URL: https://datasheet.ciiva.com:443/pdfs/VipMasterIC/IC/TWSC/TWSCS01908/TWSCS01908-1.pdf?src-supplier=IHS+Markit; ComponentLink1Description: https://datasheet.ciiva.com:443/pdfs/VipMasterIC/IC/TWSC/TWSCS01908/TWSCS01908-1.pdf?src-supplier=IHS+Markit; ComponentLink2URL: https://datasheet.ciiva.com/1174/51626-1174618.pdf?src-supplier=Element14; ComponentLink2Description: https://datasheet.ciiva.com/1174/51626-1174618.pdf?src-supplier=Element14
footprint 4-SMD DBLS
pins: 1 +, 2 -, 3 ~, 4 ~

## DIO_R_600V_4A_4-SIP
designator D?, comment GBL06
600V 4A GBL Single Phase Bridge Rectifier; Manufacturer: Genesic; Supplier: Digikey; Supplier Part Number: 1242-1221-ND; Manufacturer Part Number: GBL06; RoHS: Yes; Category: Rectifier Diodes; Stock: 9936; Pricing: 1=1.38, 10=0.956, 25=0.826, 100=0.661, 250=0.571, 500=0.511, 1000=0.457, 2500=0.395 (USD); ComponentLink1URL: https://datasheet.ciiva.com/29599/gbl06-thru-gbl10-29599348.pdf?src-supplier=Digikey; ComponentLink1Description: https://datasheet.ciiva.com/29599/gbl06-thru-gbl10-29599348.pdf?src-supplier=Digikey; ComponentLink2URL: https://datasheet.ciiva.com/4434/gbl06-thru-gbl10-4434192.pdf?src-supplier=Mouser; ComponentLink2Description: https://datasheet.ciiva.com/4434/gbl06-thru-gbl10-4434192.pdf?src-supplier=Mouser
footprint GBL06
pins: 1 +, 2 ~, 3 ~, 4 -

## DIO_R_1000V_20A_4-SIP
designator D?, comment GBI20M
Bridge Rectifier Diode, 1 Phase, 3.6A, 1000V V(RRM), Silicon; Manufacturer: Diotec; Package Body Material: Plastic; Additional Feature: UL RECOGNIZED; Forward Voltage: 1.05V; Non-rep Pk Forward Current-Max: 240A; Number of Elements: 4; Number of Phases: 1; Rep Pk Reverse Voltage-Max: 1kV; Surface Mount: No; Qualification Status: Not Qualified; Supplier: Arrow Electronics; Supplier Part Number: GBI20M; Manufacturer Part Number: GBI20M; RoHS: Yes; Category: Rectifier Diodes; Stock: 80; Pricing: 1=0.3703 (USD); Pins: 4; Diode Element Material: SILICON; Package Shape: Rectangular; Min Operating Temperature: -50°C; Max Operating Temperature: 150°C; Diode Type: RECTIFIER; Moisture Sensitivity Level: 1; Max Output current: 3.6A; Package Style: FLANGE MOUNTMeter; Peak Reflow Temperature (Cel): 260°C; Terminal Form: Through Hole; Terminal Position: SINGLE; Reach SVHC Compliant: Yes; RoHS Compliant: Yes; ComponentLink1URL: https://datasheet.ciiva.com:443/pdfs/VipMasterIC/IC/DISE/DISE-S-A0009021641/DISE-S-A0009021641-1.pdf?src-supplier=IHS+Markit; ComponentLink1Description: https://datasheet.ciiva.com:443/pdfs/VipMasterIC/IC/DISE/DISE-S-A0009021641/DISE-S-A0009021641-1.pdf?src-supplier=IHS+Markit; ComponentLink2URL: https://www.distrelec.biz/Web/Downloads/0_/en/olDiotec-Sil-BGR_GBI20_EN.pdf?mime=application%2Fpdf&src-supplier=Distrelec; ComponentLink2Description: https://www.distrelec.biz/Web/Downloads/0_/en/olDiotec-Sil-BGR_GBI20_EN.pdf?mime=application%2Fpdf&src-supplier=Distrelec; ComponentLink3URL: https://datasheet.octopart.com/GBI20M-Diotec-datasheet-137672530.pdf?src-supplier=TME; ComponentLink3Description: https://datasheet.octopart.com/GBI20M-Diotec-datasheet-137672530.pdf?src-supplier=TME
footprint GBI20M
pins: 1 +, 2 ~, 3 ~, 4 -

## DIO_REC_100V_200mA_SOD-323
designator DS?, comment BAS416-HF
Diode Switching 85V 200MA 250MW; Manufacturer: Comchip; Supplier: DigiKey; Supplier Part Number: 641-BAS416-HFCT-ND; Manufacturer Part Number: BAS416-HF; Stock: 2730; Pricing: 1=0.21, 10=0.146, 100=0.0711, 500=0.0593, 1000=0.04121 (USD)
footprint SOD-323
pins: 1, 2
text: A; K

## DIO_RECT_1000V_1A_DIO214AC
designator DS?, comment M7 1N4007
Diode 1000 V 1A Surface Mount SMA/DO-214AC
footprint DIO214AC
footprint DIO214AC
pins: 1, 2
text: A; K

## DIO_RECT_1000V_1A_DO-214AC
designator DS?, comment RS1M
Rectifier Diode, 1 Element, 1A, 1000V V(RRM), Silicon, DO-214AC; Manufacturer: ON Semiconductor / Fairchild; Reverse Recovery Time: 500ns; Max Reverse Voltage (DC): 1kV; Max Reverse Current: 5uA; Forward Voltage: 1.3V; Peak Non-Repetitive Surge Current: 30A; Polarity: Standard; Capacitance: 10pF; Power Dissipation: 1.19W; Supplier 1: Digi-Key; Manufacturer Part Number: RS1M; RoHS: Yes; Category: Rectifier Diodes; Stock 1: 700045; Pricing 1: 1=0.46, 10=0.345, 100=0.1954, 500=0.12938, 1000=0.09919, 2000=0.08626 (USD); Mount: Surface Mount; Case/Package: DO-214AC; Number of Pins: 2; Min Operating Temperature: -55°C; Max Operating Temperature: 150°C; Packaging: Tape and Reel; Series: -; Package Quantity: 7500; Average Rectified Current: 1A; Forward Current: 1A; Max Repetitive Reverse Voltage (Vrrm): 1kV; Max Surge Current: 30A; Voltage Rating (DC): 1kV; Output Current: 1A; Recovery Time: 500ns; Max Forward Surge Current (Ifsm): 30A; Current Rating: 1A; Voltage: 1kV; Reverse Voltage: 1kV; Current: 1A; Length: 4.75mm; Width: 2.95mm; Height: 2.2mm; Radiation Hardening: No; RoHS Compliant: Yes; Lead Free: Lead Free; Reach SVHC Compliant: No; ComponentLink1URL: https://datasheet.ciiva.com/15144/getdatasheetpartid-88045-15144615.pdf?src-supplier=Verical; ComponentLink1Description: https://datasheet.ciiva.com/15144/getdatasheetpartid-88045-15144615.pdf?src-supplier=Verical; ComponentLink2URL: https://datasheet.ciiva.com/25624/0900766b810e25bc-25624911.pdf?src-supplier=Rs; ComponentLink2Description: https://datasheet.ciiva.com/25624/0900766b810e25bc-25624911.pdf?src-supplier=Rs; ComponentLink3URL: https://datasheet.ciiva.com/5739/1766356-5739424.pdf?src-supplier=Farnell; ComponentLink3Description: https://datasheet.ciiva.com/5739/1766356-5739424.pdf?src-supplier=Farnell; ComponentLink4URL: https://datasheet.ciiva.com/4452/rs1m-192005-4452671.pdf?src-supplier=Mouser; ComponentLink4Description: https://datasheet.ciiva.com/4452/rs1m-192005-4452671.pdf?src-supplier=Mouser; ComponentLink5URL: https://datasheet.ciiva.com/910/rs1m-910528.pdf?src-supplier=Digi-Key; ComponentLink5Description: https://datasheet.ciiva.com/910/rs1m-910528.pdf?src-supplier=Digi-Key; ComponentLink6URL: https://datasheet.ciiva.com/22685/1766356-22685767.pdf?src-supplier=Element14; ComponentLink6Description: https://datasheet.ciiva.com/22685/1766356-22685767.pdf?src-supplier=Element14; ComponentLink7URL: https://datasheet.ciiva.com/910/rs1a-910526.pdf?src-supplier=Digi-Key; ComponentLink7Description: https://datasheet.ciiva.com/910/rs1a-910526.pdf?src-supplier=Digi-Key; Supplier Part Number 1: RS1MFSCT-ND
footprint DIO214AC
pins: 1, 2
text: A; K

## DIO_S_100V_20A_TO220
designator D?, comment SBR20100CT
Rectifier Diode, 1 Phase, 2 Element, 10A, 100V V(RRM), Silicon, TO-220AB; Manufacturer: Diodes; Package Body Material: Plastic; Application(s): FAST SOFT RECOVERY; Forward Voltage: 750mV; Non-rep Pk Forward Current-Max: 150A; Number of Elements: 2; Number of Phases: 1; Surface Mount: No; Time @ Peak Reflow Temperature-Max (s): 40s; Case Connection: CATHODE; Qualification Status: Not Qualified; Supplier: Farnell; Supplier Part Number: 3944650; Manufacturer Part Number: SBR20100CT; RoHS: Yes; Category: Rectifier Diodes; Stock: 22; Pricing: 1=0.936, 10=0.667, 100=0.509, 500=0.374, 1000=0.358, 5000=0.341 (EUR); Pins: 3; Diode Element Material: SILICON; Package Shape: Rectangular; Terminal Finish: Tin; Min Operating Temperature: -65°C; Max Operating Temperature: 175°C; JESD-609 Code: e3; Diode Type: RECTIFIER; JESD-30 Code: R-PSFM-T3; Max Output current: 10A; Package Style: FLANGE MOUNTMeter; Peak Reflow Temperature (Cel): 260°C; Rep Pk Reverse Voltage-Max: 100V; Terminal Form: Through Hole; Terminal Position: SINGLE; JEDEC-95 Code: TO-220AB; RoHS Compliant: Yes; Reach SVHC Compliant: No; ComponentLink1URL: https://datasheet.ciiva.com:443/pdfs/VipMasterIC/IC/DIOD/DIOD-S-A0002832765/DIOD-S-A0002832765-1.pdf?src-supplier=IHS+Markit; ComponentLink1Description: https://datasheet.ciiva.com:443/pdfs/VipMasterIC/IC/DIOD/DIOD-S-A0002832765/DIOD-S-A0002832765-1.pdf?src-supplier=IHS+Markit; ComponentLink2URL: https://datasheet.ciiva.com/906/sbr20100-906562.pdf?src-supplier=Digikey; ComponentLink2Description: https://datasheet.ciiva.com/906/sbr20100-906562.pdf?src-supplier=Digikey
footprint TO220
pins: 1, 2, 3

## DIO_TVS_10V_11VC_400W_DO214AC
designator D?, comment SMAJ10CA-13-F
Trans Voltage Suppressor Diode, 400W, 10V V(RWM), Bidirectional, 1 Element, Silicon; Manufacturer: Diodes; Package Body Material: Plastic; Additional Feature: EXCELLENT CLAMPING CAPABILITY; Max Breakdown Voltage: 12.3V; Min Breakdown Voltage: 11.1V; Breakdown Voltage-Nom: 11.7V; Clamping Voltage-Max: 17V; Number of Elements: 1; Max Power Dissipation: 1W; Time @ Peak Reflow Temperature-Max (s): 40s; Qualification Status: Not Qualified; Supplier: Farnell; Supplier Part Number: 3945788; Manufacturer Part Number: SMAJ10CA-13-F; RoHS: Yes; Category: TVS Diodes; Stock: 4915; Pricing: 5=0.305, 10=0.173, 100=0.0888, 500=0.0878, 1000=0.0869, 5000=0.0668 (EUR); Pins: 2; Diode Element Material: SILICON; Package Shape: Rectangular; Terminal Finish: Tin; Min Operating Temperature: -55°C; Max Operating Temperature: 150°C; JESD-609 Code: e3; Polarity: Bidirectional; Diode Type: TRANS VOLTAGE SUPPRESSOR; JESD-30 Code: R-PDSO-C2; Moisture Sensitivity Level: 1; Non-rep Peak Rev Power Dis-Max: 400W; Package Style: SMALL OUTLINEMeter; Peak Reflow Temperature (Cel): 260°C; Rep Pk Reverse Voltage-Max: 10V; Surface Mount: Yes; Technology: AVALANCHE; Terminal Form: C BEND; Terminal Position: DUAL; RoHS Compliant: Yes; Reach SVHC Compliant: No; ComponentLink1URL: https://datasheet.ciiva.com:443/pdfs/VipMasterIC/IC/DIOD/DIOD-S-A0009689838/DIOD-S-A0009691421-1.pdf?src-supplier=IHS+Markit; ComponentLink1Description: https://datasheet.ciiva.com:443/pdfs/VipMasterIC/IC/DIOD/DIOD-S-A0009689838/DIOD-S-A0009691421-1.pdf?src-supplier=IHS+Markit; ComponentLink2URL: http://components.arrow.com/part/dataview/41509839S8989386N2867?src-supplier=Arrow+Electronics; ComponentLink2Description: http://components.arrow.com/part/dataview/41509839S8989386N2867?src-supplier=Arrow+Electronics; ComponentLink3URL: http://www.mouser.com/ds/2/115/ds19005-73607.pdf?src-supplier=Mouser; ComponentLink3Description: http://www.mouser.com/ds/2/115/ds19005-73607.pdf?src-supplier=Mouser; ComponentLink4URL: http://uk.rs-online.com/webdocs/1321/0900766b81321cf6.pdf?src-supplier=Rs; ComponentLink4Description: http://uk.rs-online.com/webdocs/1321/0900766b81321cf6.pdf?src-supplier=Rs; ComponentLink5URL: http://www.alliedelec.com/m/d/d79d842ffe6711df39c2a36ff163714d.pdf?src-supplier=Allied+Electronics; ComponentLink5Description: http://www.alliedelec.com/m/d/d79d842ffe6711df39c2a36ff163714d.pdf?src-supplier=Allied+Electronics; ComponentLink6URL: http://www.diodes.com/datasheets/ds19005.pdf?src-supplier=Avnet; ComponentLink6Description: http://www.diodes.com/datasheets/ds19005.pdf?src-supplier=Avnet; ComponentLink7URL: https://www.diodes.com/assets/Datasheets/ds19005.pdf?src-supplier=Digikey; ComponentLink7Description: https://www.diodes.com/assets/Datasheets/ds19005.pdf?src-supplier=Digikey; ComponentLink8URL: http://www.diodes.com/_files/datasheets/ds19005.pdf?src-supplier=Future+Electronics; ComponentLink8Description: http://www.diodes.com/_files/datasheets/ds19005.pdf?src-supplier=Future+Electronics; ComponentLink9URL: https://datasheet.octopart.com/SMAJ10CA-13-F-Diodes-Inc.-datasheet-157073627.pdf?src-supplier=TME; ComponentLink9Description: https://datasheet.octopart.com/SMAJ10CA-13-F-Diodes-Inc.-datasheet-157073627.pdf?src-supplier=TME
footprint DIO214AC
pins: 1, 2

## DIO_TVS_15.3V_400W_DIO214AC
designator D?, comment P4SMA18A
Trans Voltage Suppressor Diode, 400W, 15.3V V(RWM), Unidirectional, 1 Element, Silicon, DO-214AC; Manufacturer: Littelfuse; Package Body Material: Plastic; Max Breakdown Voltage: 18.9V; Min Breakdown Voltage: 17.1V; Number of Elements: 1; Max Power Dissipation: 3.3W; Additional Feature: UL RECOGNIZED; Breakdown Voltage-Nom: 18V; Clamping Voltage-Max: 25.5V; Time @ Peak Reflow Temperature-Max (s): 40s; Qualification Status: Not Qualified; Supplier: Arrow Electronics; Supplier Part Number: P4SMA18A; Manufacturer Part Number: P4SMA18A; RoHS: Yes; Category: TVS Diodes; Stock: 153; Pricing: 1=0.319, 10=0.2624, 25=0.258, 100=0.1032 (USD); Pins: 2; Diode Element Material: SILICON; Package Shape: Rectangular; Terminal Finish: Tin; Min Operating Temperature: -65°C; Max Operating Temperature: 150°C; Diode Type: TRANS VOLTAGE SUPPRESSOR; Polarity: Unidirectional; Rep Pk Reverse Voltage-Max: 15.3V; Surface Mount: Yes; JESD-30 Code: R-PDSO-C2; Non-rep Peak Rev Power Dis-Max: 400W; Package Style: SMALL OUTLINEMeter; Technology: AVALANCHE; Terminal Form: C BEND; Terminal Position: DUAL; JESD-609 Code: e3; Moisture Sensitivity Level: 1; Peak Reflow Temperature (Cel): 260°C; RoHS Compliant: Yes; JEDEC-95 Code: DO-214AC; Reach SVHC Compliant: No; ComponentLink1URL: https://datasheet.ciiva.com:443/pdfs/VipMasterIC/IC/LFSI/LFSI-S-A0003820787/LFSI-S-A0003820787-1.pdf?src-supplier=IHS+Markit; ComponentLink1Description: https://datasheet.ciiva.com:443/pdfs/VipMasterIC/IC/LFSI/LFSI-S-A0003820787/LFSI-S-A0003820787-1.pdf?src-supplier=IHS+Markit; ComponentLink2URL: https://datasheet.ciiva.com/8062/littelfuse-tvs-diodes-p4sma-8062181.pdf?src-supplier=Element14; ComponentLink2Description: https://datasheet.ciiva.com/8062/littelfuse-tvs-diodes-p4sma-8062181.pdf?src-supplier=Element14; ComponentLink3URL: https://datasheet.ciiva.com/6574/littelfuse-tvs-diode-p4sma-datasheet-pdf-6574057.pdf?src-supplier=Digikey; ComponentLink3Description: https://datasheet.ciiva.com/6574/littelfuse-tvs-diode-p4sma-datasheet-pdf-6574057.pdf?src-supplier=Digikey
footprint DIO214AC
pins: 1, 2

## DIO_TVS_CAN_ESD_SOT23
designator D?, comment PESD2CAN,215
PESD Series 2 Channel Bi-Directional CAN Bus ESD Protection Diode - SOT-23; Manufacturer: Nexperia; Direction: Bidirectional; Breakdown Voltage: 30.3V; Clamping Voltage: 41V; Number of Channels: 1; Peak Pulse Current: 5A; Reverse Standoff Voltage: 24V; Supplier: Digikey; Supplier Part Number: 1727-3891-6-ND; Manufacturer Part Number: PESD2CAN,215; RoHS: No; Category: ESD and Circuit Protection ICs; Stock: 258317; Pricing: 1=0.49, 10=0.378, 100=0.227, 500=0.21016, 1000=0.14291 (USD); Pins: 3; Packaging: Tape and Reel; Operating Supply Voltage: 24V; Height: 1.1mm; ComponentLink1URL: http://www.farnell.com/datasheets/1750978.pdf?src-supplier=Farnell; ComponentLink1Description: http://www.farnell.com/datasheets/1750978.pdf?src-supplier=Farnell; ComponentLink2URL: https://assets.nexperia.com/documents/data-sheet/PESD2CAN.pdf?src-supplier=Digikey; ComponentLink2Description: https://assets.nexperia.com/documents/data-sheet/PESD2CAN.pdf?src-supplier=Digikey
footprint SOT23
pins: 1, 2 "1", 3 "1"

## DIO_Z_12V_500mW_SOD123
designator D?, comment MMSZ5242B-7-F
Zener Diode, 12V V(Z), 5%, 0.37W, Silicon, Unidirectional; Manufacturer: Diodes; Package Body Material: Plastic; Additional Feature: HIGH RELIABILITY; Dynamic Impedance-Max: 30R; Number of Elements: 1; Max Power Dissipation: 370mW; Time @ Peak Reflow Temperature-Max (s): 40s; Test Current: 20mA; Qualification Status: Not Qualified; Supplier: Arrow Electronics; Supplier Part Number: MMSZ5242B-7-F; Manufacturer Part Number: MMSZ5242B-7-F; RoHS: Yes; Category: Zener Diodes; Stock: 297000; Pricing: 3000=0.0188, 6000=0.0152 (USD); Pins: 2; Diode Element Material: SILICON; Package Shape: Rectangular; Terminal Finish: Tin; Min Operating Temperature: -65°C; Max Operating Temperature: 150°C; JESD-609 Code: e3; Polarity: Unidirectional; Diode Type: ZENER; JESD-30 Code: R-PDSO-G2; Moisture Sensitivity Level: 1; Package Style: SMALL OUTLINEMeter; Peak Reflow Temperature (Cel): 260°C; Reference Voltage-Nom: 12V; Surface Mount: Yes; Technology: ZENER; Terminal Form: Gull Wing; Terminal Position: DUAL; Voltage Tol-Max: 5%; Reach SVHC Compliant: Yes; RoHS Compliant: Yes; ComponentLink1URL: https://datasheet.ciiva.com:443/pdfs/VipMasterIC/IC/DIOD/DIOD-S-A0003550771/DIOD-S-A0003550771-1.pdf?src-supplier=IHS+Markit; ComponentLink1Description: https://datasheet.ciiva.com:443/pdfs/VipMasterIC/IC/DIOD/DIOD-S-A0003550771/DIOD-S-A0003550771-1.pdf?src-supplier=IHS+Markit; ComponentLink2URL: https://datasheet.ciiva.com/15142/getdatasheetpartid-110295-15142740.pdf?src-supplier=Verical; ComponentLink2Description: https://datasheet.ciiva.com/15142/getdatasheetpartid-110295-15142740.pdf?src-supplier=Verical; ComponentLink3URL: https://datasheet.ciiva.com/49516/1541183-49516474.pdf?src-supplier=Jameco; ComponentLink3Description: https://datasheet.ciiva.com/49516/1541183-49516474.pdf?src-supplier=Jameco
footprint SOD-123
pins: 1, 2